# EAGLE library part AFE4400 (library mike-temp)
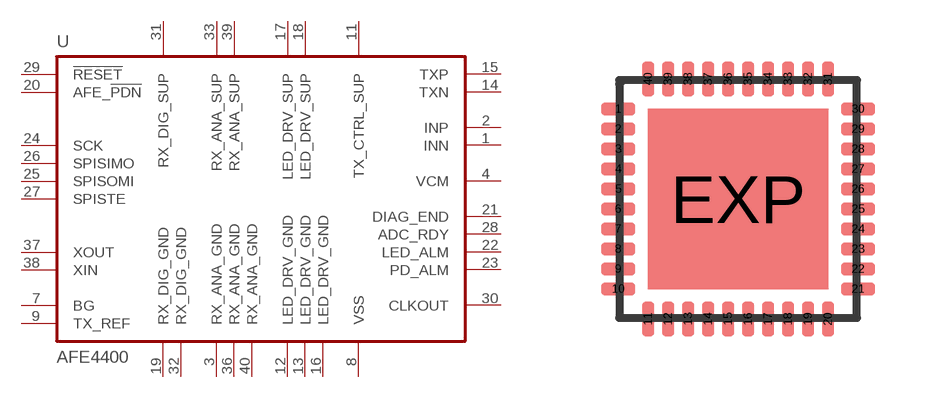
[diagram p47: symbol with the pads of RHA_S-PVQFN-N40; footprint RHA_S-PVQFN-N40]

Designator prefix U

## AFE4400  [RHA_S-PVQFN-N40]
1  INN
2  INP
3  RX_ANA_GND
4  VCM
7  BG
8  VSS
9  TX_REF
11  TX_CTRL_SUP
12  LED_DRV_GND
13  LED_DRV_GND
14  TXN
15  TXP
16  LED_DRV_GND
17  LED_DRV_SUP
18  LED_DRV_SUP
19  RX_DIG_GND
20  AFE_!PDN!
21  DIAG_END
22  LED_ALM
23  PD_ALM
24  SCK
25  SPISOMI
26  SPISIMO
27  SPISTE
28  ADC_RDY
29  !RESET!
30  CLKOUT
31  RX_DIG_SUP
32  RX_DIG_GND
33  RX_ANA_SUP
36  RX_ANA_GND
37  XOUT
38  XIN
39  RX_ANA_SUP
40  RX_ANA_GND

## Footprint RHA_S-PVQFN-N40 (pad centres in mm)
RHA (S-PVQFN-N40) Source: http://focus.ti.com/lit/ds/symlink/cc2531.pdf
smd 0.85 x 0.3: 1 -3,2.25; 2 -3,1.75; 3 -3,1.25; 4 -3,0.75; 5 -3,0.25; 6 -3,-0.25; 7 -3,-0.75; 8 -3,-1.25; 9 -3,-1.75; 10 -3,-2.25; 21 3,-2.25; 22 3,-1.75; 23 3,-1.25; 24 3,-0.75; 25 3,-0.25; 26 3,0.25; 27 3,0.75; 28 3,1.25; 29 3,1.75; 30 3,2.25
smd 0.3 x 0.85: 11 -2.25,-3; 12 -1.75,-3; 13 -1.25,-3; 14 -0.75,-3; 15 -0.25,-3; 16 0.25,-3; 17 0.75,-3; 18 1.25,-3; 19 1.75,-3; 20 2.25,-3; 31 2.25,3; 32 1.75,3; 33 1.25,3; 34 0.75,3; 35 0.25,3; 36 -0.25,3; 37 -0.75,3; 38 -1.25,3; 39 -1.75,3; 40 -2.25,3
smd 4.5 x 4.5: EXP 0,0